# EAGLE library part BREAKBOARD-ATMEGA32 (library ioshub)
BREAKBOARD-ATMEGA32
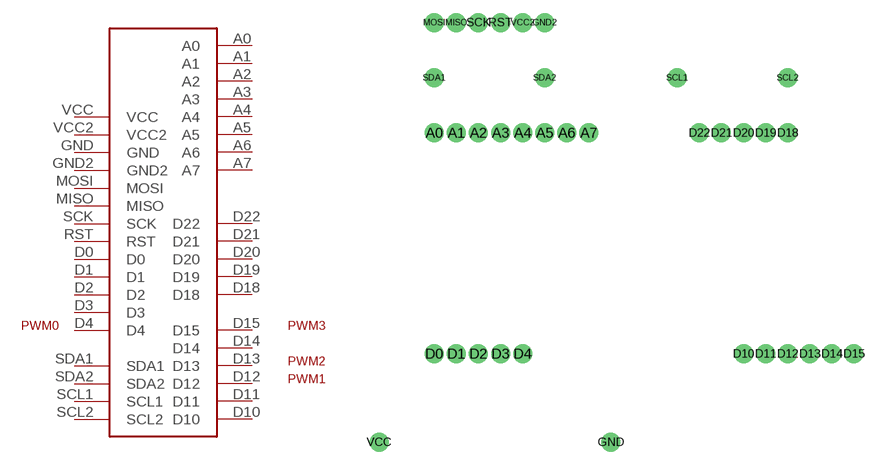
[diagram p7: symbol with the pads of BREAKBOARD-ATMEGA32; footprint BREAKBOARD-ATMEGA32]

Designator prefix -

## BREAKBOARD-ATMEGA32001  [BREAKBOARD-ATMEGA32]
A0  A0
A1  A1
A2  A2
A3  A3
A4  A4
A5  A5
A6  A6
A7  A7
D0  D0
D1  D1
D2  D2
D3  D3
D4  D4
D10  D10
D11  D11
D12  D12
D13  D13
D14  D14
D15  D15
D18  D18
D19  D19
D20  D20
D21  D21
D22  D22
GND  GND
GND2  GND2
MISO  MISO
MOSI  MOSI
RST  RST
SCK  SCK
SCL1  SCL1
SCL2  SCL2
SDA1  SDA1
SDA2  SDA2
VCC  VCC
VCC2  VCC2

## Footprint BREAKBOARD-ATMEGA32 (pad centres in mm)
BREAKBOARD-ATMEGA32
drill 0.9 pad 2.184: A0 -38.1,13.97; A1 -35.56,13.97; A2 -33.02,13.97; A3 -30.48,13.97; A4 -27.94,13.97; A5 -25.4,13.97; A6 -22.86,13.97; A7 -20.32,13.97; D0 -38.1,-11.43; D1 -35.56,-11.43; D2 -33.02,-11.43; D3 -30.48,-11.43; D4 -27.94,-11.43; D10 -2.54,-11.43; D11 0,-11.43; D12 2.54,-11.43; D13 5.08,-11.43; D14 7.62,-11.43; D15 10.16,-11.43; D18 2.54,13.97; D19 0,13.97; D20 -2.54,13.97; D21 -5.08,13.97; D22 -7.62,13.97; GND -17.78,-21.59; GND2 -25.4,26.67; MISO -35.56,26.67; MOSI -38.1,26.67; RST -30.48,26.67; SCK -33.02,26.67; SCL1 -10.16,20.32; SCL2 2.54,20.32; SDA1 -38.1,20.32; SDA2 -25.4,20.32; VCC -44.45,-21.59; VCC2 -27.94,26.67